# Altium footprint library Footprints.PcbLib: 24 footprints (part 1 of 2)
Each footprint in its own frame and in the unit in brackets; x right, y up, seen from the top. Pads: shape width x height; smd on the part's side, far side on the other; paste and mask are expansions set on the pad; w line width, h text height; cw(c..) or ccw(c..) is an arc to the next point about the centre after c.
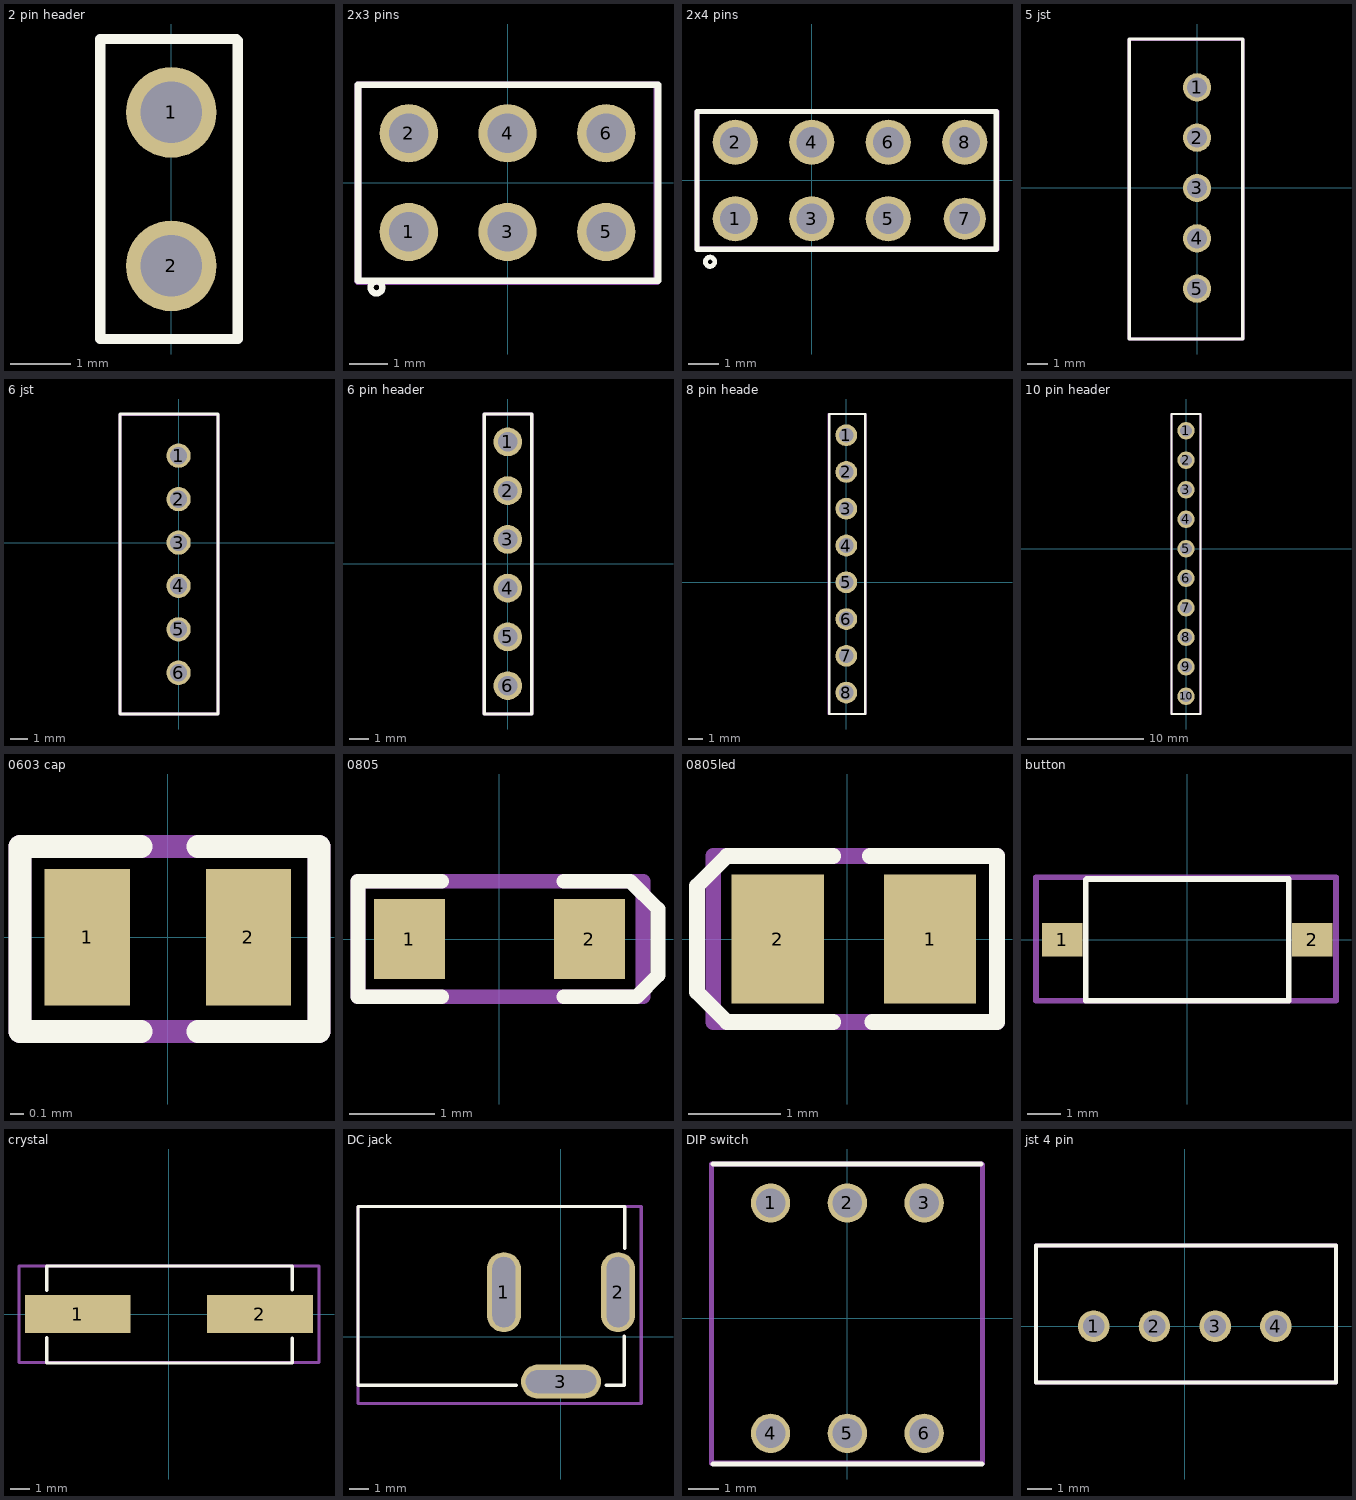
[diagram p0: the footprints below, top view; thin cyan lines are the x and y axes]

## 2 pin header [mm]
pads (2):
  round 1.5 hole 1.02: 1(0,6.35) 2(0,3.81)
Top Overlay:
  lines w0.17: -1.175,2.6 -1.175,7.565 1.075,7.565 1.1,7.54 1.1,2.6 -1.175,2.6
3D body "User Library-Header_Male_2Pin.STEP": height 8.54, standoff -3, extent -1.245,2.54 1.245,7.62

## 2x3 pins [mm]
pads (6):
  round 1.5 hole 1.02: 1(-2.54,-1.27) 2(-2.54,1.27) 3(0,-1.27) 4(0,1.27) 5(2.54,-1.27) 6(2.54,1.27)
Top Overlay:
  circle w0.16: c-3.375,-2.7 r0.154
  lines w0.17: -3.85,-2.525 3.875,-2.525 3.875,2.525 -3.85,2.525 -3.85,-2.525
Mechanical 29:
  lines w0.17: -3.85,-2.55 3.85,-2.55 3.85,2.525 -3.85,2.525 -3.85,-2.55
  text ".Designator" at -3.821,-2.438 h1
3D body "User Library-HEADER, 2X3, 2_54MM X 2_54MM PITCH, VERT, TH.step": height 8.38, standoff -3.81, extent -3.835,-2.555 3.785,2.525

## 2x4 pins [mm]
pads (8):
  round 1.5 hole 1.02: 1(-2.54,-1.27) 2(-2.54,1.27) 3(0,-1.27) 4(0,1.27) 5(2.54,-1.27) 6(2.54,1.27) 8(5.08,1.27)
  round 1.4 hole 1: 7(5.08,-1.27)
Top Overlay:
  circle w0.16: c-3.375,-2.7 r0.154
  lines w0.17: -3.81,-2.286 6.125,-2.286 6.125,2.286 -3.81,2.286 -3.81,-2.286
Mechanical 29:
  lines w0.17: -3.81,-2.286 6.15,-2.286 6.15,2.286 -3.81,2.286 -3.81,-2.286
  text ".Designator" at -3.821,-2.438 h1
3D body "User Library-2_54mm Male Header (4x2).STEP": height 8.54, standoff -3, extent -3.785,-2.505 6.375,2.475

## 5 jst [mm]
pads (5):
  round 1.4 hole 1: 1(0,5) 2(0,2.5) 3(0,0) 4(0,-2.5) 5(0,-5)
Top Overlay:
  lines w0.17: -3.375,-7.5 2.275,-7.5 2.275,7.4 -3.375,7.4 -3.375,-7.5
Mechanical 29:
  lines w0.17: -3.375,-7.5 2.275,-7.5 2.275,7.375 -3.375,7.375 -3.375,-7.5
  text ".Designator" at 6.542,-8 h1
3D body "JST - XH - Thru - 5Pin - 2.5mm (Genuine).stp": height 7.21, standoff -3, extent -3.353,-7.337 2.489,7.337

## 6 jst [mm]
pads (6):
  round 1.4 hole 1: 1(0,5) 2(0,2.5) 3(0,0) 4(0,-2.5) 5(0,-5) 6(0,-7.5)
Top Overlay:
  lines w0.17: -3.375,-9.875 -3.375,7.4 2.275,7.4 2.275,-9.875 -3.375,-9.875
Mechanical 29:
  lines w0.17: -3.375,-9.875 -3.375,7.375 2.275,7.375 2.275,-9.875 -3.375,-9.875
  text ".Designator" at 6.542,-8 h1
3D body "User Library-jst-b6b-xh-a.step": height 7, standoff -3.4, extent -3.425,-9.95 2.325,7.45

## 6 pin header [mm]
pads (6):
  round 1.5 hole 1.02: 1(0,6.35) 2(0,3.81) 3(0,1.27) 4(0,-1.27) 5(0,-3.81) 6(0,-6.35)
Top Overlay:
  lines w0.17: -1.225,-7.825 -1.225,7.8 1.25,7.8 1.25,-7.825 -1.225,-7.825
Mechanical 29:
  lines w0.17: -1.225,-7.825 -1.225,7.8 1.25,7.8 1.25,-7.825 -1.225,-7.825
  text ".Designator" at 3.313,-8.621 h1.52
3D body "User Library-zl262-6s_p2-54_l15-74_w2-54_h8-5.step": height 8.5, standoff -3, extent -1.27,-7.87 1.27,7.87

## 8 pin heade [mm]
pads (8):
  round 1.5 hole 1.02: 1(0,10.16) 2(0,7.62) 3(0,5.08) 4(0,2.54) 5(0,0) 6(0,-2.54) 7(0,-5.08) 8(0,-7.62)
Top Overlay:
  lines w0.17: -1.175,-9.1 -1.175,11.625 1.3,11.625 1.3,-9.1 -1.175,-9.1
Mechanical 29:
  lines w0.17: -1.2,-9.1 -1.2,11.625 1.3,11.625 1.3,-9.1 -1.2,-9.1
  text ".Designator" at 4.163,-7.196 h1.52
3D body "User Library-zl262-8s_p2-54_l20-82_w2-54_h8-5.step": height 8.6, standoff -2.9, extent -1.195,-9.135 1.345,11.685

## 10 pin header [mm]
pads (10):
  round 1.5 hole 1.02: 1(0,10.16) 2(0,7.62) 3(0,5.08) 4(0,2.54) 5(0,0) 6(0,-2.54) 7(0,-5.08) 8(0,-7.62) 9(0,-10.16) 10(0,-12.7)
Top Overlay:
  lines w0.17: -1.25,-14.225 -1.25,11.6 1.25,11.6 1.25,-14.225 -1.25,-14.225
Mechanical 29:
  lines w0.17: -1.25,-14.225 -1.25,11.6 1.25,11.6 1.25,-14.225 -1.25,-14.225
  text ".Designator" at 4.238,-8.946 h1.52
3D body "User Library-zl262-10s_p2-54_l25-9_w2-54_h8-5.step": height 8.6, standoff -2.9, extent -1.275,-14.275 1.265,11.625

## 0603 cap [mm]
pads (2):
  rect 0.635x1.016 smd: 1(-0.6,0) 2(0.6,0)
Top Overlay:
  lines w0.17: -0.2,-0.7 -1.1,-0.7 -1.1,0.675 -0.2,0.675 ; 0.225,-0.7 1.125,-0.7 1.125,0.675 0.225,0.675
Mechanical 29:
  lines w0.17: -1.1,-0.7 1.125,-0.7 1.125,0.675 -1.1,0.675 -1.1,-0.7
  text ".Designator" at -4.346,-2.163 h1
3D body "User Library-SMD CAPACITOR.step": height 0.8, standoff 0, extent -0.8,-0.4 0.8,0.4

## 0805 [mm]
pads (2):
  rect 0.83x0.93 smd: 1(-1.05,0) 2(1.05,0)
Top Overlay:
  lines w0.17: -0.675,-0.675 -1.65,-0.675 -1.65,0.675 -0.675,0.675 ; 0.75,-0.675 1.6,-0.675 1.85,-0.425 1.85,0.35 1.525,0.675 0.75,0.675
Mechanical 29:
  lines w0.17: -1.65,-0.675 1.675,-0.675 1.675,0.675 -1.65,0.675 -1.65,-0.65
  text ".Designator" at -3.921,-1.763 h1

## 0805led [mm]
pads (2):
  rect 1x1.4 smd: 1(0.9,0) 2(-0.75,0)
Top Overlay:
  lines w0.17: -0.15,-0.9 -1.3,-0.9 -1.625,-0.575 -1.625,0.575 -1.3,0.9 -0.15,0.9 ; 0.25,0.9 1.625,0.9 1.625,-0.9 0.275,-0.9
Mechanical 29:
  lines w0.17: -1.45,-0.9 1.625,-0.9 1.625,0.9 -1.45,0.9 -1.45,-0.9
  text ".Designator" at -4.371,-2.213 h1
3D body "User Library-LED SMD0805.STEP": height 0.85, standoff 0.01, extent -0.931,-0.531 1.131,0.375

## button [mm]
pads (2):
  rect 1.2x1 smd: 1(-3.7,0) 2(3.7,0)
Top Overlay:
  lines w0.17: -3,1.775 -3,-1.8 3,-1.8 3,1.8 -2.975,1.8
Mechanical 29:
  lines w0.17: -4.475,-1.8 -4.475,1.85 4.4,1.85 4.4,-1.8 -4.475,-1.8
  text ".Designator" at -4.946,2.512 h1
3D body "User Library-SWT-39.step": height 2.5, standoff 0, extent -4,-1.85 4,1.85

## crystal [mm]
pads (2):
  rect 5.5x2 smd: 1(-4.75,0) 2(4.75,0)
Top Overlay:
  lines w0.17: -6.35,-1.225 -6.35,-2.55 6.425,-2.55 6.425,-1.25 ; -6.35,1.225 -6.35,2.5 6.425,2.5 6.425,1.25
Mechanical 29:
  lines w0.17: -7.8,-2.525 -7.8,2.5 7.825,2.5 7.825,-2.525 -7.8,-2.525
  text ".Designator" at -7.121,3.237 h1
3D body "User Library-SMU4.STEP": height 4.02, standoff 0.02, extent -6.201,-2.425 6.299,2.375

## DC jack [mm]
pads (3):
  oval 1.801x4.201 hole 1.199 slot 3.701 at 90 deg: 1(-3,2.351) 2(3,2.351)
  oval 4.201x1.801 hole 1.199 slot 3.701 at 0 deg: 3(0,-2.351)
Top Overlay:
  lines w0.17: -2.337,-2.54 -10.668,-2.54 -10.668,6.858 3.353,6.858 3.353,4.648 ; 2.362,-2.54 3.327,-2.54 3.327,0.051
Mechanical 29:
  lines w0.17: -10.668,-3.505 4.216,-3.505 4.216,6.858 -10.668,6.858 -10.668,-3.505
  text ".Designator" at -9.931,-6.02 h1.52
3D body "dc-005-5a-2_0.stp": height 11.09, standoff -3.51, extent -10.658,-2.542 3.342,6.858

## DIP switch [mm]
pads (6):
  round 1.3 hole 0.97: 1(-2.54,3.81) 2(0,3.81) 3(2.54,3.81) 4(-2.54,-3.81) 5(0,-3.81) 6(2.54,-3.81)
Top Overlay:
  lines w0.17: -4.45,-4.825 4.45,-4.825 ; -4.45,5.1 4.425,5.1
Mechanical 29:
  lines w0.17: -4.5,-4.8 -4.5,5.1 4.45,5.1 4.475,5.075 4.475,-4.8 -4.5,-4.8
  text ".Designator" at -3.696,6.212 h1.52
3D body "418117270903--3DModel-STEP-510211.STEP": height 6.95, standoff -3.9, extent -4.45,-4.85 4.47,5.05

## jst 4 pin [mm]
pads (4):
  round 1.3 hole 0.9: 1(-3.75,0) 2(-1.25,0) 3(1.25,0) 4(3.75,0)
Top Overlay:
  lines w0.17: -6.125,-2.325 6.225,-2.325 6.225,3.325 -6.125,3.325 -6.125,-2.325
Mechanical 29:
  lines w0.17: -6.125,-2.325 6.225,-2.325 6.225,3.325 -6.125,3.325 -6.125,-2.325
  text ".Designator" at -5.471,4.087 h1
3D body "User Library-jst-b4b-xh-a-1.step": height 2.95, standoff -7.45, extent -6.175,-2.375 6.225,3.375